# Altium schematic symbol library CAP,Alum,220uF,25VDC,Radial,Thru.Schlib: 1 symbol
Pins are listed as number, name and electrical type; pins without a type are passive.

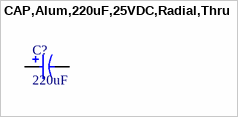
[diagram p0: symbol CAP,Alum,220uF,25VDC,Radial,Thru]

## CAP,Alum,220uF,25VDC,Radial,Thru
designator C?, comment 220uF
220 µF 25 V Aluminum Electrolytic Capacitors Radial, Can 2000 Hrs @ 85°C
pins: 1, 2